# Altium footprint library 103-SOP.PcbLib: 5 footprints
Each footprint in its own frame and in the unit in brackets; x right, y up, seen from the top. Pads: shape width x height; smd on the part's side, far side on the other; paste and mask are expansions set on the pad; w line width, h text height; cw(c..) or ccw(c..) is an arc to the next point about the centre after c.
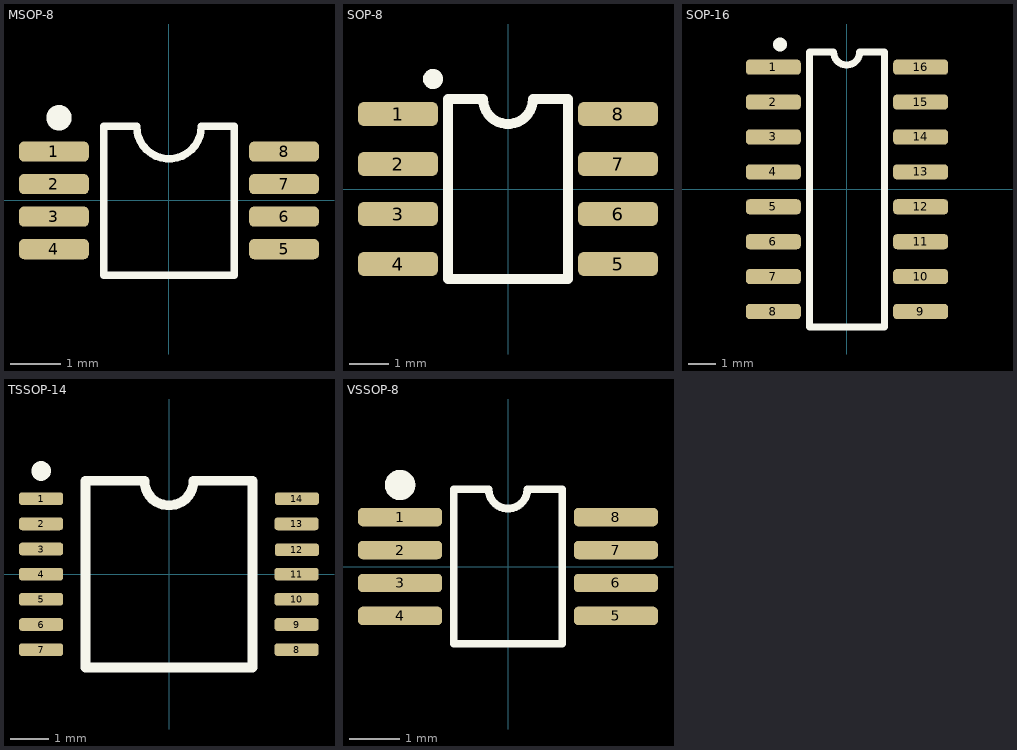
[diagram p0: the footprints below, top view; thin cyan lines are the x and y axes]

## MSOP-8 [mil] "MSOP-8/L=3mm/W=3mm/Pin=0.65mm"
height 43.31
pads (8):
  rrect50% 55x15.98 smd: 1(-90.55,38.39) 2(-90.55,12.8) 3(-90.55,-12.8) 4(-90.55,-38.39) 5(90.55,-38.39) 6(90.55,-12.8) 7(90.55,12.8) 8(90.55,38.39)
Top Overlay:
  circle w10: c-86.61,64.96 r5
  lines w5.91: -51.18,-59.06 -51.18,58.2 -25.5,58.21 ccw(c0,58.2) 25.5,58.2 51.18,58.2 51.18,-59.05 -51.18,-59.06
3D body "MSOP-8.step": height 42.34, standoff -1.01, extent -96.46,-59.06 96.46,59.06

## SOP-8 [mil] "SOP-8/L=6.25mm/W=5.1mm/Pin=1.27mm"
height 68.9
pads (8):
  rrect50% 80x24 smd: 1(-110,75) 2(-110,25) 3(-110,-25) 4(-110,-75) 5(110,-75) 6(110,-25) 7(110,25) 8(110,75)
Top Overlay:
  circle w10: c-75,110 r5
  lines w10: -60,-90 -60,90 -25,90 ccw(c0,90) 25,90 60,90 60,-90 -60,-90
3D body "SOP-8.step": height 62.84, standoff -1.01, extent -118.11,-94.79 118.12,94.78

## SOP-16 [mm] "SOP-16/L=10mm/W=6.2mm/Pin=1.27mm"
height 1.75
pads (16):
  rrect50% 2x0.55 smd: 1(-2.667,4.445) 2(-2.667,3.175) 3(-2.667,1.905) 4(-2.667,0.635) 5(-2.667,-0.635) 6(-2.667,-1.905) 7(-2.667,-3.175) 8(-2.667,-4.445) 9(2.692,-4.445) 10(2.692,-3.175) 11(2.692,-1.905) 12(2.692,-0.635) 13(2.692,0.635) 14(2.692,1.905) 15(2.692,3.175) 16(2.692,4.445)
Top Overlay:
  circle w0.254: c-2.425,5.27 r0.127
  lines w0.254: -0.483,5 -1.346,5 -1.346,-5 1.372,-5 1.372,5 0.475,5 ; -0.475,4.997 ccw(c0,4.996) 0.475,4.997
3D body "SOP-16.step": height 1.7, standoff 0, extent -3.053,-5 3.053,5

## TSSOP-14 [mm] "TSSOP-8/L=5mm/W=4.4mm/Pin=0.65mm"
height 1.2
pads (14):
  rrect50% 1.143x0.33 smd: 1(-3.304,1.95) 2(-3.304,1.3) 3(-3.304,0.65) 4(-3.304,0) 5(-3.304,-0.65) 6(-3.304,-1.3) 7(-3.304,-1.95) 8(3.296,-1.95) 9(3.296,-1.3) 10(3.296,-0.65) 11(3.296,0) 12(3.304,0.629) 13(3.296,1.3) 14(3.304,1.95)
Top Overlay:
  circle w0.254: c-3.302,2.667 r0.127
  lines w0.254: -2.159,-2.413 2.159,-2.413 2.159,2.413 0.635,2.413 cw(c0,2.413) -0.635,2.413 -2.159,2.413 -2.159,-2.413
3D body "TSSOP-14.step": height 1.1, standoff 0, extent -3.006,-2.5 3.006,2.5

## VSSOP-8 [mil] "VSSOP-8/L=3mm/W=3mm/Pin=0.65mm"
height 43.31
pads (8):
  rrect50% 65.43x14.33 smd: 1(-83.9,38.39) 2(-83.9,12.79) 3(-83.9,-12.8) 4(-83.9,-38.39) 5(83.9,-38.39) 6(83.9,-12.8) 7(83.9,12.79) 8(83.9,38.39)
Top Overlay:
  circle w11.81: c-83.9,63.36 r5.91
  lines w6: -42.18,-60 42.18,-60 42.18,60 15,60 cw(c0,60) -15,60 -42.18,60 -42.18,-60
3D body "VSSOP-8.step": height 48.21, standoff -1, extent -98.67,-59.06 98.67,59.06